# EAGLE library part CONNECTOR-7 (library marius)
7-pin connectors
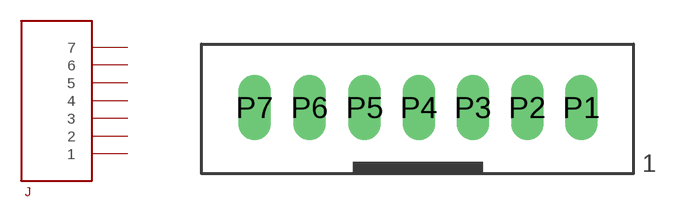
[diagram p27: symbol with the pads of JST-XH-7; footprint JST-XH-7]

Designator prefix J

## CONNECTOR-7JST-XH-7 (MPN: B7B-XH-A (LF)(SN))  [JST-XH-7]
P1  1
P2  2
P3  3
P4  4
P5  5
P6  6
P7  7

## Footprint JST-XH-7 (pad centres in mm)
5-pin JST PH Shrouded Header 2.0mm pitch P/N B5B-PH-K-S. Mating plug PHR-5
drill 1 long: P1 7.54,0.048; P2 5.04,0.048; P3 2.54,0.048; P4 0.04,0.048; P5 -2.46,0.048; P6 -5,0.048; P7 -7.54,0.048